# EAGLE library part ARJE-0034 (library ARJE-0034)
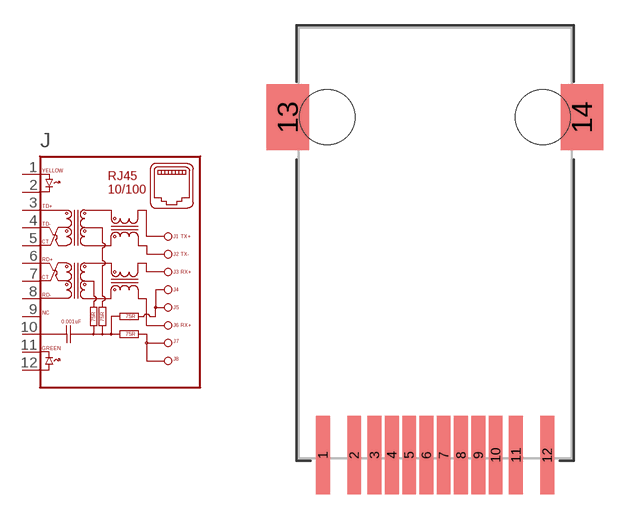
[diagram p0: symbol with the pads of SMD_ARJE_ABR; footprint SMD_ARJE_ABR]

Designator prefix J

## ARJE-0034  [SMD_ARJE_ABR]
1  1  pas
2  2  pas
3  3  pas
4  4  pas
5  5  pas
6  6  pas
7  7  pas
8  8  pas
9  9  pas
10  10  pas
11  11  pas
12  12  pas
13  M  pas
14  M  pas

## Footprint SMD_ARJE_ABR (pad centres in mm)
smd 0.813 x 4.597: 1 -6.61,-12.5; 2 -4.77,-12.5; 3 -3.57,-12.5; 4 -2.55,-12.5; 5 -1.53,-12.5; 6 -0.51,-12.5; 7 0.51,-12.5; 8 1.53,-12.5; 9 2.55,-12.5; 10 3.57,-12.5; 11 4.77,-12.5; 12 6.61,-12.5
smd 2.5 x 3.9: 13 -8.67,7.42; 14 8.67,7.42
hole 3.25 at -6.35,7.42
hole 3.25 at 6.35,7.42